# Altium schematic symbol library Schlib.SchLib: 4 symbols
Pins are listed as number, name and electrical type; pins without a type are passive.

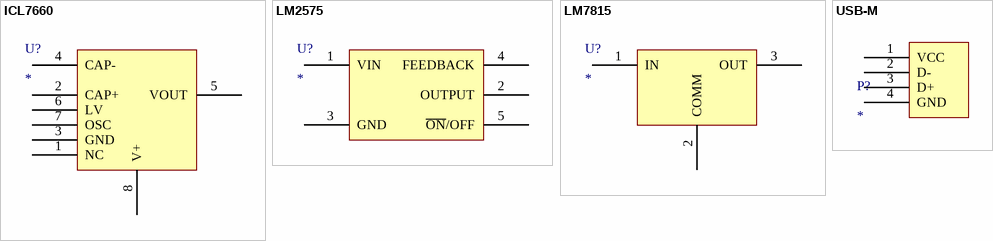
[diagram p0: symbols ICL7660 to USB-M]

## ICL7660
designator U?
pins: 1 NC, 2 CAP+, 3 GND, 4 CAP-, 5 VOUT, 6 LV, 7 OSC, 8 V+

## LM2575
designator U?
footprint LM2575-
pins: 1 VIN, 2 OUTPUT, 3 GND, 4 FEEDBACK, 5 ~{ON}/OFF

## LM7815
designator U?
footprint TO-220AB (TO, Thru-Hole, Vertical, Heatsink Mounted; 3 In-Line Leads; Pitch 2.54 mm)
pins: 1 IN, 2 COMM, 3 OUT

## USB-M
designator P?
footprint USB-M
pins: 1 VCC, 2 D-, 3 D+, 4 GND